# Altium footprint library Inductors.PcbLib: 2 footprints
Each footprint in its own frame and in the unit in brackets; x right, y up, seen from the top. Pads: shape width x height; smd on the part's side, far side on the other; paste and mask are expansions set on the pad; w line width, h text height; cw(c..) or ccw(c..) is an arc to the next point about the centre after c.
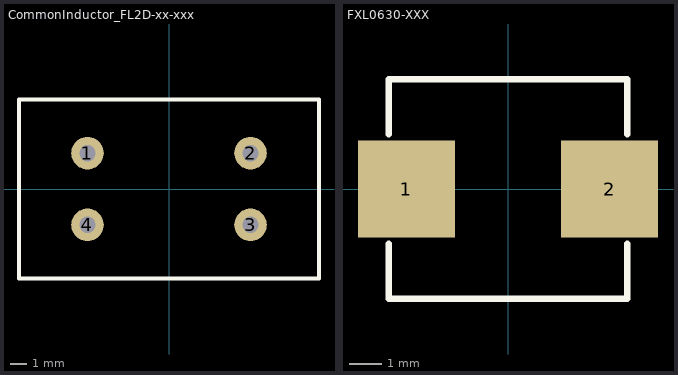
[diagram p0: the footprints below, top view; thin cyan lines are the x and y axes]

## CommonInductor_FL2D-xx-xxx [mm]
pads (4):
  round 2 hole 1: 1(-5,2.2) 2(5,2.2) 3(5,-2.2) 4(-5,-2.2)
Top Overlay:
  lines w0.254: -9.2,-5.5 9.2,-5.5 9.2,5.5 -9.2,5.5 -9.2,-5.5
3D body "CommonInductors_FL2D-xx-xxx.STEP": height 18.2, standoff -2.96, extent -9.193,-5.475 9.194,5.599

## FXL0630-XXX [mm] "Power Inductors"
pads (2):
  rect 3x3 smd: 1(-3.15,0) 2(3.15,0)
Top Overlay:
  lines w0.203: -3.7,-1.7 -3.7,-3.4 3.7,-3.4 3.7,-1.7 ; -3.7,1.7 -3.7,3.4 3.7,3.4 3.7,1.7
3D body "FXL0630-XXX.STEP": height 2.9, standoff 0, extent -3.6,-3.3 3.6,3.3